# EAGLE library part 74XX-EU_74*244 (library ネオぴゅう太_ReplaceLibParts)
Octal BUFFER and LINE DRIVER, 3-state
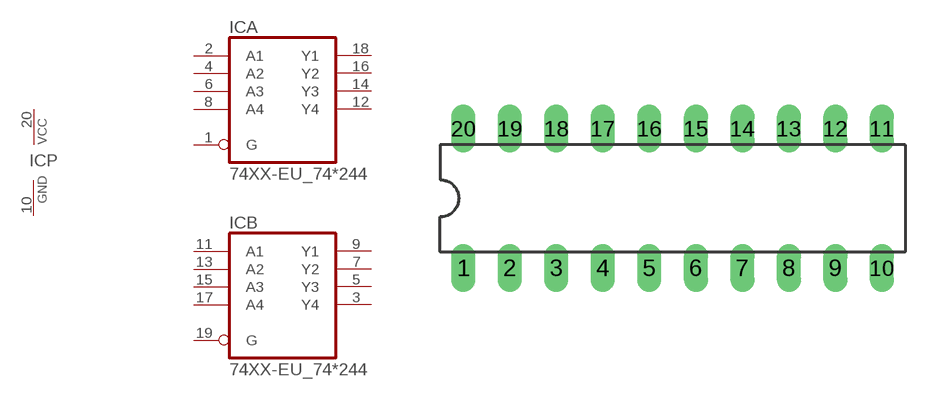
[diagram p6: symbol with the pads of 74XX-EU_DIL20; footprint 74XX-EU_DIL20]

Designator prefix IC; gates A=74XX-EU_74244 B=74XX-EU_74244 P=74XX-EU_PWRN

## 74XX-EU_74244N, 74XX-EU_74AC244N, 74XX-EU_74ACT244N, 74XX-EU_74HC244N, 74XX-EU_74HCT244N, 74XX-EU_74LS244N, 74XX-EU_74S244N  [74XX-EU_DIL20]
1  A:G  in
2  A:A1  in
3  B:Y4  hiz
4  A:A2  in
5  B:Y3  hiz
6  A:A3  in
7  B:Y2  hiz
8  A:A4  in
9  B:Y1  hiz
10  P:GND  pwr
11  B:A1  in
12  A:Y4  hiz
13  B:A2  in
14  A:Y3  hiz
15  B:A3  in
16  A:Y2  hiz
17  B:A4  in
18  A:Y1  hiz
19  B:G  in
20  P:VCC  pwr

## Footprint 74XX-EU_DIL20 (pad centres in mm)
Dual In Line Package
drill 0.813 long: 1 -11.43,-3.81; 2 -8.89,-3.81; 3 -6.35,-3.81; 4 -3.81,-3.81; 5 -1.27,-3.81; 6 1.27,-3.81; 7 3.81,-3.81; 8 6.35,-3.81; 9 8.89,-3.81; 10 11.43,-3.81; 11 11.43,3.81; 12 8.89,3.81; 13 6.35,3.81; 14 3.81,3.81; 15 1.27,3.81; 16 -1.27,3.81; 17 -3.81,3.81; 18 -6.35,3.81; 19 -8.89,3.81; 20 -11.43,3.81